# Altium schematic symbol library stomp_switch.SchLib: 1 symbol
Pins are listed as number, name and electrical type; pins without a type are passive.

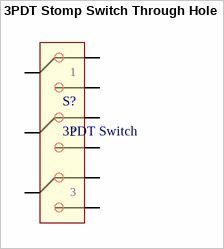
[diagram p0: symbol 3PDT Stomp Switch Through Hole]

## 3PDT Stomp Switch Through Hole
designator S?, comment 3PDT Switch
Link: http://www.taydaelectronics.com/3pdt-stomp-foot-pedal-switch-pcb.html
footprint stomp_switch (stomp switch 3PDT)
text: 1; 2; 3